# EAGLE library part JRC-23F (library jrc-23f)
RELAY JRC-23F COIL 5V / 12V
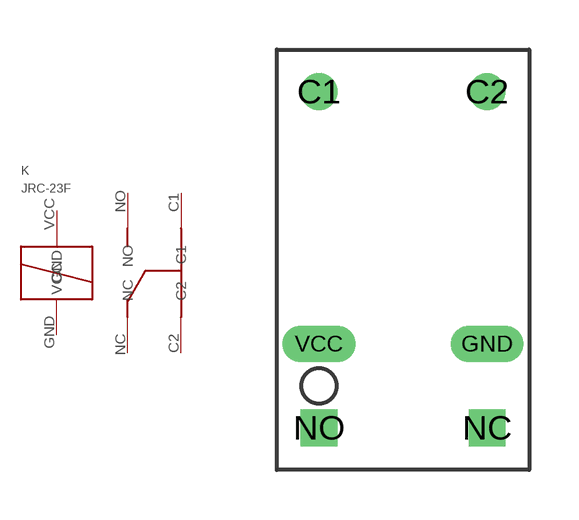
[diagram p0: symbol with the pads of JRC-23F; footprint JRC-23F]

Designator prefix K

## JRC-23F  [JRC-23F]
C1  C1
C2  C2
GND  GND
NC  NC
NO  NO
VCC  VCC

## Footprint JRC-23F (pad centres in mm)
drill 0.6: C1 -2.54,5.08; C2 2.54,5.08
drill 0.6 long: GND 2.54,-2.54; VCC -2.54,-2.54
drill 0.6 square: NC 2.54,-5.08; NO -2.54,-5.08